# EAGLE library part PESD5V0F5UF_UNI (library power)
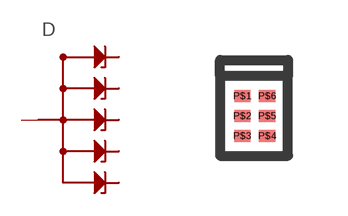
[diagram p1: symbol with the pads of DFN1410-6; footprint DFN1410-6]

Designator prefix D

## PESD5V0F5UF_UNI  [DFN1410-6]
P$1  K  pas
P$2  A  pas
P$3  K1  pas
P$4  K2  pas
P$5  K3  pas
P$6  K4  pas

## Footprint DFN1410-6 (pad centres in mm)
smd 0.4 x 0.3: P$1 0,0; P$2 0,-0.5; P$3 0,-1; P$4 0.625,-1; P$5 0.625,-0.5; P$6 0.625,0